# EAGLE library part DS7505 (library _RoweTel)
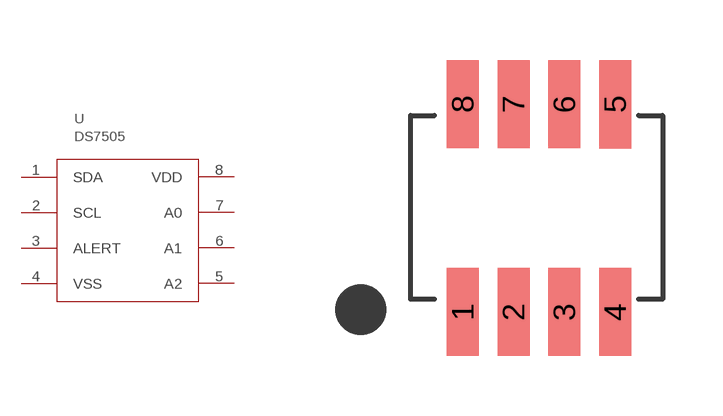
[diagram p8: symbol with the pads of DS7505-SOIC8; footprint DS7505-SOIC8]

Designator prefix U

## DS7505  [DS7505-SOIC8]
1  SDA
2  SCL
3  ALERT
4  VSS
5  A2
6  A1
7  A0
8  VDD

## Footprint DS7505-SOIC8 (pad centres in mm)
smd 0.8 x 2.2: 1 -1.9,-2.6; 2 -0.63,-2.6; 3 0.64,-2.6; 4 1.91,-2.6; 6 0.64,2.6; 7 -0.63,2.6; 8 -1.9,2.6
smd 0.8 x 2.22: 5 1.91,2.6